# EAGLE library part MICROMATCH-16 (library tyco)
MicroMaTch 10
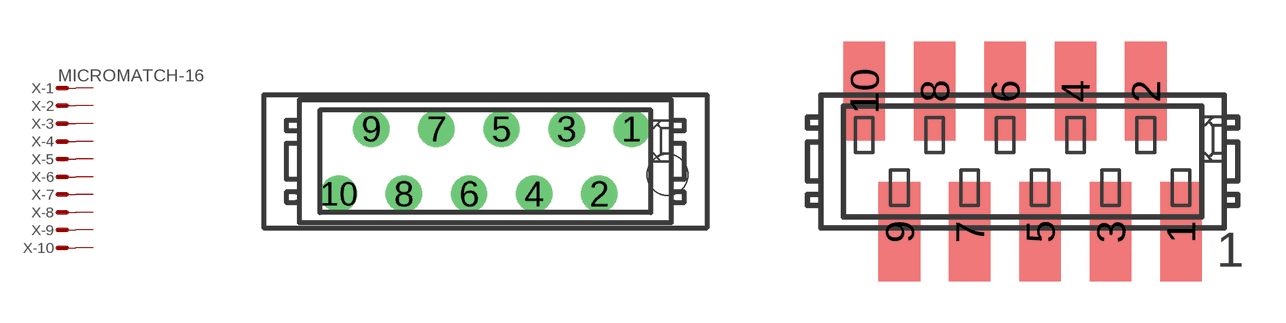
[diagram p3: symbol with the pads of MICROMATCH-10; footprints MICROMATCH-10, MICROMATCH-10-SMD]

Designator prefix X; gates -1=MV -2=M -3=M -4=M -5=M -6=M -7=M -8=M -9=M -10=M

## MICROMATCH-16  [MICROMATCH-10]
1  -1:S  pas
2  -2:S  pas
3  -3:S  pas
4  -4:S  pas
5  -5:S  pas
6  -6:S  pas
7  -7:S  pas
8  -8:S  pas
9  -9:S  pas
10  -10:S  pas

## MICROMATCH-16-SMD  [MICROMATCH-10-SMD]
Pads as for MICROMATCH-10

## MICROMATCH-16-SIDE  [MICROMATCH-10-SIDE]
Pads as for MICROMATCH-10

## Footprint MICROMATCH-10 (pad centres in mm)
MicroMaTch 10 8-215464-0 / 1-215464-0
drill 0.813 pad 1.422: 1 5.715,1.27; 2 4.445,-1.27; 3 3.175,1.27; 4 1.905,-1.27; 5 0.635,1.27; 6 -0.635,-1.27; 7 -1.905,1.27; 8 -3.175,-1.27; 9 -4.445,1.27; 10 -5.715,-1.27
hole 1.6 at 7.115,-0.53

## Footprint MICROMATCH-10-SMD (pad centres in mm)
MicroMaTch 10 SMD 8-188275-0 / 1-188275-0
smd 1.5 x 3.58: 1 5.715,-2.54; 2 4.445,2.54; 3 3.175,-2.54; 4 1.905,2.54; 5 0.635,-2.54; 6 -0.635,2.54; 7 -1.905,-2.54; 8 -3.175,2.54; 9 -4.445,-2.54; 10 -5.715,2.54

## Footprint MICROMATCH-10-SIDE (pad centres in mm)
MicroMaTch 10 Side Entry 8-215460-0 / 1-215460-0
drill 0.813: 1 5.715,1.27; 2 4.445,-1.27; 3 3.175,1.27; 4 1.905,-1.27; 5 0.635,1.27; 6 -0.635,-1.27; 7 -1.905,1.27; 8 -3.175,-1.27; 9 -4.445,1.27; 10 -5.715,-1.27